# Altium footprint library JS202011SCQN.PcbLib: 1 footprints
Each footprint in its own frame and in the unit in brackets; x right, y up, seen from the top. Pads: shape width x height; smd on the part's side, far side on the other; paste and mask are expansions set on the pad; w line width, h text height; cw(c..) or ccw(c..) is an arc to the next point about the centre after c.
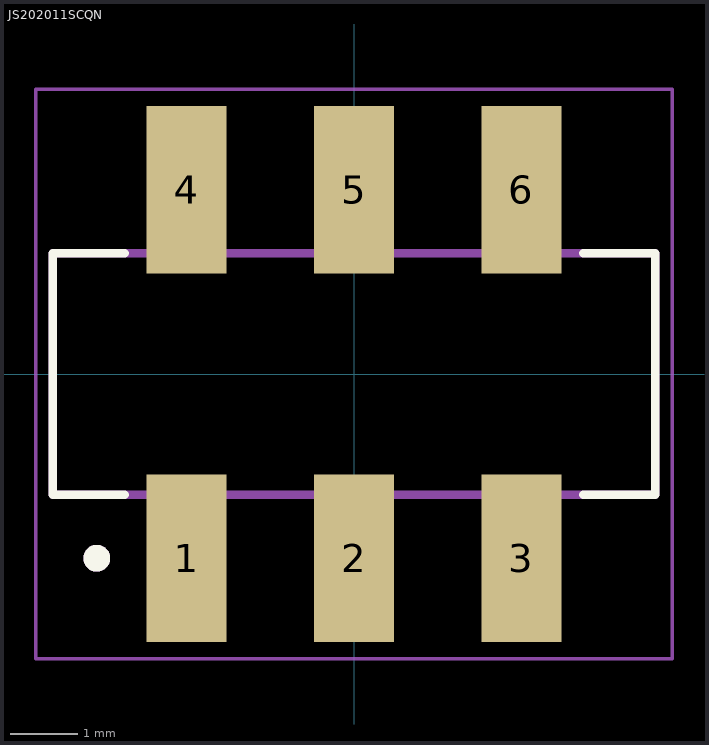
[diagram p0: the footprint, top view; thin cyan lines are the x and y axes]

## JS202011SCQN [mm]
pads (6):
  rect 1.2x2.5 smd: 1(-2.5,-2.75) 2(0,-2.75) 3(2.5,-2.75) 4(-2.5,2.75) 5(0,2.75) 6(2.5,2.75)
Top Overlay:
  circle w0.2: c-3.84,-2.75 r0.1
  lines w0.127: -3.42,-1.8 -4.5,-1.8 -4.5,1.8 -3.42,1.8 ; 3.42,-1.8 4.5,-1.8 4.5,1.8 3.42,1.8
Top 3D Body:
  circle w0.2: c-3.84,-2.75 r0.1
  lines w0.127: -4.5,-1.8 4.5,-1.8 4.5,1.8 -4.5,1.8 -4.5,-1.8
Top Courtyard:
  lines w0.05: -4.75,-4.25 -4.75,4.25 4.75,4.25 4.75,-4.25 -4.75,-4.25
3D body "JS202011SCQN.step": height 5.51, standoff 0, extent -4.496,-3.746 4.496,3.746